# Altium footprint library tactile_switches.PcbLib: 1 footprints
Each footprint in its own frame and in the unit in brackets; x right, y up, seen from the top. Pads: shape width x height; smd on the part's side, far side on the other; paste and mask are expansions set on the pad; w line width, h text height; cw(c..) or ccw(c..) is an arc to the next point about the centre after c.
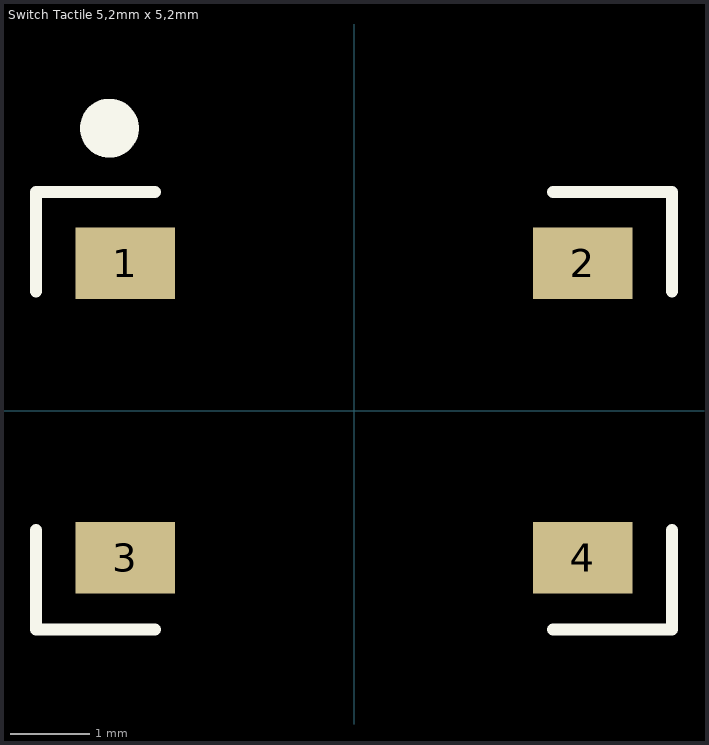
[diagram p0: the footprint, top view; thin cyan lines are the x and y axes]

## Switch Tactile 5,2mm x 5,2mm [mm] "Switch Tactile SPST-NO 5,2mm x 5,2mm"
pads (4):
  rect 1.25x0.9 smd: 1(-2.875,1.85) 2(2.875,1.85) 3(-2.875,-1.85) 4(2.875,-1.85)
Top Overlay:
  circle w0.5: c-3.075,3.55 r0.12
  lines w0.152: -4,-1.5 -4,-2.75 -3.75,-2.75 -2.5,-2.75 ; -4,1.5 -4,2.75 -3.75,2.75 -2.5,2.75 ; 2.5,-2.75 3.75,-2.75 4,-2.75 4,-1.5 ; 2.5,2.75 3.75,2.75 4,2.75 4,1.5
3D body "PTS526 SMG15 SMTR2 LFS--3DModel-STEP-1.STEP": height 1.7, standoff 0, extent -3.2,-2.6 3.2,2.6